# Altium integrated library LTC6101AIMS8PBF.IntLib: 1 symbol
Pins are listed as number, name and electrical type; pins without a type are passive.

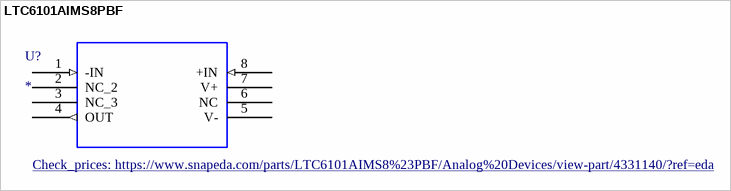
[diagram p0: symbol LTC6101AIMS8PBF]

## LTC6101AIMS8PBF
designator U?
SP Amp Current Sense Amp Single 60V Automotive 8-Pin MSOP Tube; MP: LTC6101AIMS8#PBF; MF: Analog Devices; SnapEDA_Link: https://www.snapeda.com/parts/LTC6101AIMS8%23PBF/Analog%20Devices/view-part/4331140/?ref=snap; Price: None; Purchase-URL: https://pricing.snapeda.com/search/part/LTC6101AIMS8#PBF/?ref=eda; Package: MSOP-8 Analog Devices; Availability: Warning; Value: *; Check_prices: https://www.snapeda.com/parts/LTC6101AIMS8%23PBF/Analog%20Devices/view-part/4331140/?ref=eda
footprint MSOP-8_MS
pins: 1 -IN (in), 2 NC_2, 3 NC_3, 4 OUT (out), 5 V- (power), 6 NC, 7 V+ (power), 8 +IN (in)